# EAGLE library part ADS1298 (library burr-brown-3)
8-Channel, 24-Bit Analog-To-Digital Converter With Integrated ECG Front End.
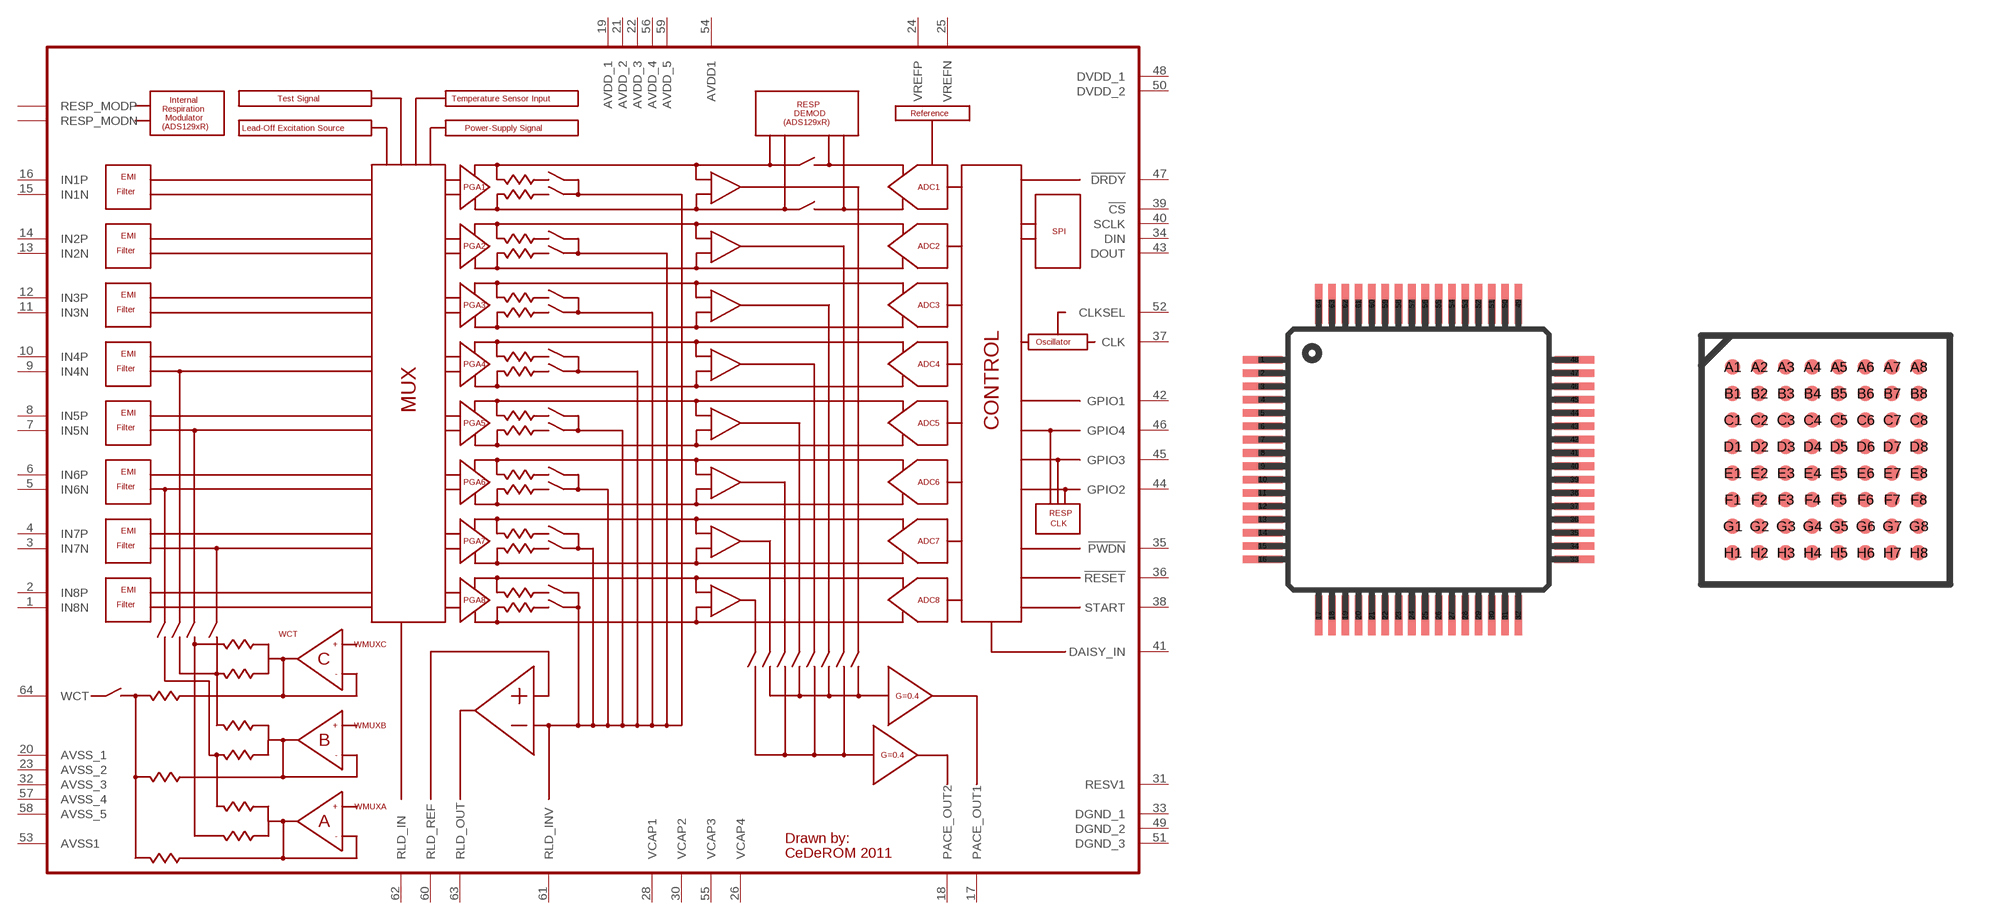
[diagram p176: symbol with the pads of TQFP64; footprints TQFP64, ZXG(S-PBGA-N64)]

Designator prefix -

## ADS1298*PAG*  [TQFP64]
1  IN8N  in
2  IN8P  in
3  IN7N  in
4  IN7P  in
5  IN6N  in
6  IN6P  in
7  IN5N  in
8  IN5P  in
9  IN4N  in
10  IN4P  in
11  IN3N  in
12  IN3P  in
13  IN2N  in
14  IN2P  in
15  IN1N  in
16  IN1P  in
17  PACE_OUT1  out
18  PACE_OUT2  out
19  AVDD_1  pwr
20  AVSS_1  pwr
21  AVDD_2  pwr
22  AVDD_3  pwr
23  AVSS_2  pwr
24  VREFP
25  VREFN
26  VCAP4
28  VCAP1
30  VCAP2
31  RESV1  in
32  AVSS_3  pwr
33  DGND_1  pwr
34  DIN  in
35  !PWDN  in
36  !RESET  in
37  CLK  in
38  START  in
39  !CS  in
40  SCLK  in
41  DAISY_IN  in
42  GPIO1
43  DOUT  out
44  GPIO2
45  GPIO3
46  GPIO4
47  !DRDY  out
48  DVDD_1  pwr
49  DGND_2  pwr
50  DVDD_2  pwr
51  DGND_3  pwr
52  CLKSEL  in
53  AVSS1  pwr
54  AVDD1  pwr
55  VCAP3
56  AVDD_4  pwr
57  AVSS_4  pwr
58  AVSS_5  pwr
59  AVDD_5  pwr
60  RLD_REF  in
61  RLD_INV
62  RLD_IN  in
63  RLD_OUT  out
64  WCT  out

## ADS1298*ZXG*  [ZXG(S-PBGA-N64)]
A1  IN8P  in
A2  IN8N  in
A3  RLD_IN  in
A4  AVDD_1  pwr
A5  AVSS_2  pwr
A6  AVDD_3  pwr
A7  AVDD1  pwr
A8  AVSS1  pwr
B1  IN7P  in
B2  IN7N  in
B3  RLD_OUT  out
B4  AVDD_2  pwr
B5  AVSS_3  pwr
B6  AVDD_4  pwr
B7  VCAP3
B8  CLKSEL  in
C1  IN6P  in
C2  IN6N  in
C3  RLD_INV
C4  RLD_REF  in
C5  AVSS_4  pwr
C6  AVDD_5  pwr
C7  DGND_1  pwr
C8  DVDD_1  pwr
D1  IN5P  in
D2  IN5N  in
D3  WCT  out
D4  AVSS_1  pwr
D5  AVSS_5  pwr
D6  !DRDY  out
D7  DGND_2  pwr
D8  DVDD_2  pwr
E1  IN4P  in
E2  IN4N  in
E3  PACE_OUT1  out
E4  RESV1  in
E5  GPIO4
E6  GPIO3
E7  GPIO2
E8  DOUT  out
F1  IN3P  in
F2  IN3N  in
F3  PACE_OUT2  out
F4  RESP_MODN  out
F5  GPIO1
F6  DAISY_IN  in
F7  !CS  in
F8  SCLK  in
G1  IN2P  in
G2  IN2N  in
G3  VCAP4
G4  RESP_MODP  out
G5  !PWDN  in
G6  !RESET  in
G7  START  in
G8  CLK  in
H1  IN1P  in
H2  IN1N  in
H3  VREFP
H4  VREFN
H5  VCAP1
H6  VCAP2
H7  DGND_3  pwr
H8  DIN  in

## Footprint TQFP64 (pad centres in mm)
TQFP - 64 http://www.latticesemi.com/lit/docs/package/pkg.pdf
smd 1.5 x 0.285: 1 -5.85,3.75; 2 -5.85,3.25; 3 -5.85,2.75; 4 -5.85,2.25; 5 -5.85,1.75; 6 -5.85,1.25; 7 -5.85,0.75; 8 -5.85,0.25; 9 -5.85,-0.25; 10 -5.85,-0.75; 11 -5.85,-1.25; 12 -5.85,-1.75; 13 -5.85,-2.25; 14 -5.85,-2.75; 15 -5.85,-3.25; 16 -5.85,-3.75; 33 5.85,-3.75; 34 5.85,-3.25; 35 5.85,-2.75; 36 5.85,-2.25; 37 5.85,-1.75; 38 5.85,-1.25; 39 5.85,-0.75; 40 5.85,-0.25; 41 5.85,0.25; 42 5.85,0.75; 43 5.85,1.25; 44 5.85,1.75; 45 5.85,2.25; 46 5.85,2.75; 47 5.85,3.25; 48 5.85,3.75
smd 0.285 x 1.5: 17 -3.75,-5.85; 18 -3.25,-5.85; 19 -2.75,-5.85; 20 -2.25,-5.85; 21 -1.75,-5.85; 22 -1.25,-5.85; 23 -0.75,-5.85; 24 -0.25,-5.85; 25 0.25,-5.85; 26 0.75,-5.85; 27 1.25,-5.85; 28 1.75,-5.85; 29 2.25,-5.85; 30 2.75,-5.85; 31 3.25,-5.85; 32 3.75,-5.85; 49 3.75,5.85; 50 3.25,5.85; 51 2.75,5.85; 52 2.25,5.85; 53 1.75,5.85; 54 1.25,5.85; 55 0.75,5.85; 56 0.25,5.85; 57 -0.25,5.85; 58 -0.75,5.85; 59 -1.25,5.85; 60 -1.75,5.85; 61 -2.25,5.85; 62 -2.75,5.85; 63 -3.25,5.85; 64 -3.75,5.85

## Footprint ZXG(S-PBGA-N64) (pad centres in mm)
ZXG (S-PBGA-N64) Drawn 23.07.2011 by Tomasz Boleslaw CEDRO (http://www.tomek.cedro.info) based on http://www.ti.com/litv/pdf/mpbg581
smd 0.46 x 0.46: A1 -2.8,2.8; A2 -2,2.8; A3 -1.2,2.8; A4 -0.4,2.8; A5 0.4,2.8; A6 1.2,2.8; A7 2,2.8; A8 2.8,2.8; B1 -2.8,2; B2 -2,2; B3 -1.2,2; B4 -0.4,2; B5 0.4,2; B6 1.2,2; B7 2,2; B8 2.8,2; C1 -2.8,1.2; C2 -2,1.2; C3 -1.2,1.2; C4 -0.4,1.2; C5 0.4,1.2; C6 1.2,1.2; C7 2,1.2; C8 2.8,1.2; D1 -2.8,0.4; D2 -2,0.4; D3 -1.2,0.4; D4 -0.4,0.4; D5 0.4,0.4; D6 1.2,0.4; D7 2,0.4; D8 2.8,0.4; E1 -2.8,-0.4; E2 -2,-0.4; E3 -1.2,-0.4; E4 -0.4,-0.4; E5 0.4,-0.4; E6 1.2,-0.4; E7 2,-0.4; E8 2.8,-0.4; F1 -2.8,-1.2; F2 -2,-1.2; F3 -1.2,-1.2; F4 -0.4,-1.2; F5 0.4,-1.2; F6 1.2,-1.2; F7 2,-1.2; F8 2.8,-1.2; G1 -2.8,-2; G2 -2,-2; G3 -1.2,-2; G4 -0.4,-2; G5 0.4,-2; G6 1.2,-2; G7 2,-2; G8 2.8,-2; H1 -2.8,-2.8; H2 -2,-2.8; H3 -1.2,-2.8; H4 -0.4,-2.8; H5 0.4,-2.8; H6 1.2,-2.8; H7 2,-2.8; H8 2.8,-2.8